# Altium schematic symbol library sym-0013.SchLib: 1 symbol
Pins are listed as number, name and electrical type; pins without a type are passive.

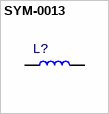
[diagram p0: symbol SYM-0013]

## SYM-0013
designator L?
Generic Inductor
pins: 1, 2